# Altium footprint library HDC2022.PcbLib: 21 footprints (part 1 of 2)
Each footprint in its own frame and in the unit in brackets; x right, y up, seen from the top. Pads: shape width x height; smd on the part's side, far side on the other; paste and mask are expansions set on the pad; w line width, h text height; cw(c..) or ccw(c..) is an arc to the next point about the centre after c.
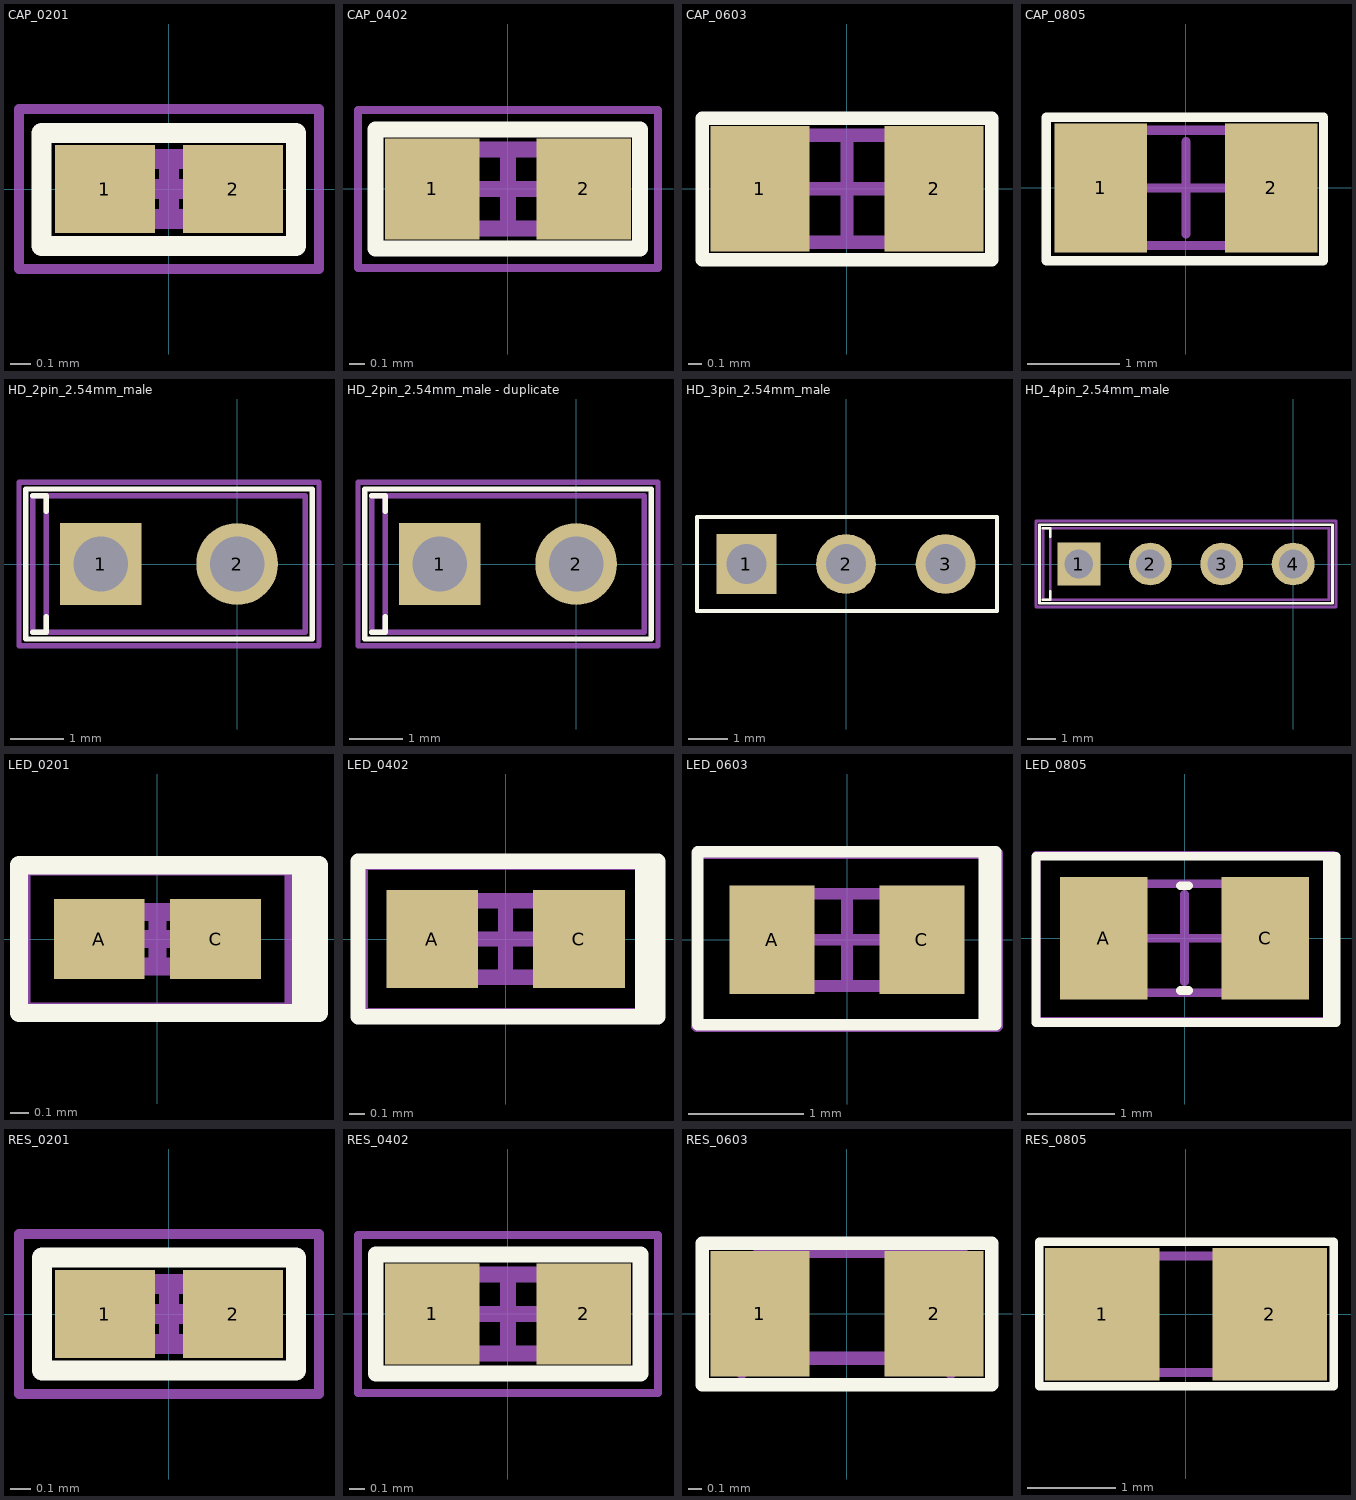
[diagram p0: the footprints below, top view; thin cyan lines are the x and y axes]

## CAP_0201 [mm] "Chip Capacitor, 2-Leads, Body 0.60x0.30mm, IPC Medium Density"
height 0.3
pads (2):
  rect 0.5x0.44 smd: 1(-0.32,0) 2(0.32,0)
Top Overlay:
  lines w0.1: -0.637,-0.284 -0.637,0.28 0.635,0.28 0.635,-0.284 -0.637,-0.284
Top Courtyard:
  lines w0.05: -0.75,-0.4 0.75,-0.4 0.75,0.4 -0.75,0.4 -0.75,-0.4
  lines w0.1: -0.15,0 0.15,0 ; 0,-0.15 0,0.15
Top Assembly:
  lines w0.1: -0.3,-0.15 0.3,-0.15 0.3,0.15 -0.3,0.15 -0.3,-0.15
3D body "CAPC0603X03N.step": height 0.3, standoff 0, extent -0.3,-0.15 0.3,0.15

## CAP_0402 [mm] "Chip Capacitor, 2-Leads, Body 1.00x0.50mm, IPC Medium Density"
height 0.5
pads (2):
  rect 0.6x0.64 smd: 1(-0.48,0) 2(0.48,0)
Top Overlay:
  lines w0.1: -0.839,-0.376 0.836,-0.376 0.836,0.377 -0.839,0.377 -0.839,-0.376
Top Courtyard:
  lines w0.05: -0.95,-0.5 -0.95,0.5 0.95,0.5 0.95,-0.5 -0.95,-0.5
  lines w0.1: -0.25,0 0.25,0 ; 0,-0.25 0,0.25
Top Assembly:
  lines w0.1: -0.5,-0.25 -0.5,0.25 0.5,0.25 0.5,-0.25 -0.5,-0.25
3D body: height 0.5, standoff 0, extent -0.25,-0.25 0.25,0.25
3D body: height 0.5, standoff 0, extent -0.5,-0.25 -0.25,0.25
3D body: height 0.5, standoff 0, extent 0.25,-0.25 0.5,0.25

## CAP_0603 [mm] "Chip Capacitor, 2-Leads, Body 1.50x0.80mm, IPC Medium Density"
height 0.6
pads (2):
  rect 0.74x0.94 smd: 1(-0.65,0) 2(0.65,0)
Top Overlay:
  lines w0.1: -1.082,-0.532 -1.082,0.527 1.082,0.527 1.082,-0.532 -1.082,-0.532
Top Courtyard:
  lines w0.1: -0.4,0 0.4,0 ; 0,-0.4 0,0.4
Top Assembly:
  lines w0.1: -0.75,-0.4 -0.75,0.4 0.75,0.4 0.75,-0.4 -0.75,-0.4
3D body "CAPC1508X06N.step": height 0.6, standoff 0, extent -0.75,-0.4 0.75,0.4

## CAP_0805 [mm] "Chip Capacitor, 2-Leads, Body 2.00x1.25mm, IPC Medium Density"
height 0.3
pads (2):
  rect 1x1.4 smd: 1(-0.925,0) 2(0.925,0)
Top Overlay:
  lines w0.1: -1.515,0.756 -1.515,-0.789 1.488,-0.789 ; -1.514,0.765 1.488,0.765 1.488,-0.78
Top Courtyard:
  lines w0.1: -0.5,0 0.5,0 ; 0,-0.5 0,0.5
Top Assembly:
  lines w0.1: -1,-0.625 -1,0.625 1,0.625 1,-0.625 -1,-0.625
3D body "CAPC2012X03N.step": height 0.3, standoff 0, extent -1,-0.625 1,0.625

## HD_2pin_2.54mm_male [mil]
pads (2):
  rect 60x60 hole 40 mask+0: 1(-100,0)
  round 60 hole 40 mask+0: 2(0,0)
Top Overlay:
  lines w3.94: -150,-50 -140,-50 -140,-38.46 ; -150,50 -140,50 -140,38.46 ; -155,-55 -155,55 55,55 55,-55 -155,-55
Mechanical 13:
  lines w3.94: -150,-50 -150,50 ; -150,-50 50,-50 50,50 -150,50 ; -150,-50 -140,-50 -140,50 -150,50
Mechanical 15:
  lines w3.94: -160,-60 60,-60 60,60 -160,60 -160,-60
3D body "CON2_1X2_P100UM_HDR.step": height 374.02, standoff -200, extent -150,-50 50,50
3D body: height 10, standoff 0, extent 0,0 10,10

## HD_2pin_2.54mm_male - duplicate [mil]
pads (2):
  rect 60x60 hole 40 mask+0: 1(-100,0)
  round 60 hole 40 mask+0: 2(0,0)
Top Overlay:
  lines w3.94: -150,-50 -140,-50 -140,-38.46 ; -150,50 -140,50 -140,38.46 ; -155,-55 -155,55 55,55 55,-55 -155,-55
Mechanical 13:
  lines w3.94: -150,-50 -150,50 ; -150,-50 50,-50 50,50 -150,50 ; -150,-50 -140,-50 -140,50 -150,50
Mechanical 15:
  lines w3.94: -160,-60 60,-60 60,60 -160,60 -160,-60
3D body "CON2_1X2_P100UM_HDR.step": height 374.02, standoff -200, extent -150,-50 50,50
3D body: height 10, standoff 0, extent 0,0 10,10

## HD_3pin_2.54mm_male [mil]
pads (3):
  rect 60x60 hole 40 mask+0: 1(-100,0)
  round 60 hole 40 mask+0: 2(0,0) 3(100,0)
Top Overlay:
  lines w3.94: -149.61,-47.24 151.57,-47.24 151.57,47.24 -149.61,47.24 -149.61,-47.24
3D body "User Library-zl201-3_p2-54_l7-62_w2-54_h8-89.step": height 350, standoff -120, extent -149.02,-50.2 150.98,49.8

## HD_4pin_2.54mm_male [mil]
pads (4):
  rect 60x60 hole 40 mask+0: 1(-300,0)
  round 60 hole 40 mask+0: 2(-200,0) 3(-100,0) 4(0,0)
Top Overlay:
  lines w3.94: -350,-50 -340,-50 -340,-38.46 ; -350,50 -340,50 -340,38.46 ; -355,-55 -355,55 55,55 55,-55 -355,-55
Mechanical 13:
  lines w3.94: -350,-50 -350,50 ; -350,-50 50,-50 50,50 -350,50 ; -350,-50 -340,-50 -340,50 -350,50
Mechanical 15:
  lines w3.94: -360,-60 60,-60 60,60 -360,60 -360,-60
3D body "CON4_1X4_P100UM_HDR2.step": height 374.02, standoff -200, extent -349.99,-49.99 50.01,50.01
3D body: height 10, standoff 0, extent 0,0 10,10

## LED_0201 [mm] "Chip Capacitor, 2-Leads, Body 0.60x0.30mm, IPC Medium Density"
height 0.3
pads (2):
  rect 0.5x0.44 smd: A(-0.32,0) C(0.32,0)
Top Overlay:
  lines w0.1: 0.791,-0.405 0.791,0.407 ; -0.762,-0.406 -0.762,0.406 0.889,0.406 0.889,-0.406 -0.762,-0.406
Top Courtyard:
  lines w0.1: -0.15,0 0.15,0 ; 0,-0.15 0,0.15 ; -0.75,-0.4 0.75,-0.4 0.75,0.4 -0.75,0.4 -0.75,-0.4
Top Assembly:
  lines w0.1: -0.3,-0.15 0.3,-0.15 0.3,0.15 -0.3,0.15 -0.3,-0.15

## LED_0402 [mm] "Chip Capacitor, 2-Leads, Body 1.00x0.50mm, IPC Medium Density"
height 0.5
pads (2):
  rect 0.6x0.64 smd: A(-0.48,0) C(0.48,0)
Top Overlay:
  lines w0.1: 0.898,-0.499 0.898,0.491 ; -0.965,-0.508 0.997,-0.508 0.997,0.508 -0.965,0.508 -0.965,-0.508
Top Courtyard:
  lines w0.1: -0.25,0 0.25,0 ; 0,-0.25 0,0.25 ; -0.95,-0.5 -0.95,0.5 0.95,0.5 0.95,-0.5 -0.95,-0.5
Top Assembly:
  lines w0.1: -0.5,-0.25 -0.5,0.25 0.5,0.25 0.5,-0.25 -0.5,-0.25
3D body "User Library-LED_1006_B.STEP": height 0.2, standoff 0, extent -0.5,-0.3 0.5,0.3

## LED_0603 [mm] "Chip Capacitor, 2-Leads, Body 1.50x0.80mm, IPC Medium Density"
height 0.6
pads (2):
  rect 0.74x0.94 smd: A(-0.65,0) C(0.65,0)
Top Overlay:
  lines w0.1: 1.19,-0.734 1.19,0.765 ; -1.295,-0.737 1.287,-0.737 1.287,0.762 -1.295,0.762 -1.295,-0.737
Top Courtyard:
  lines w0.1: -0.4,0 0.4,0 ; 0,-0.4 0,0.4 ; -1.3,-0.75 -1.3,0.75 1.3,0.75 1.3,-0.75 -1.3,-0.75
Top Assembly:
  lines w0.1: -0.75,-0.4 -0.75,0.4 0.75,0.4 0.75,-0.4 -0.75,-0.4
3D body "User Library-LED SMD0603.step": height 0.68, standoff 0, extent -0.808,-0.368 0.842,0.357

## LED_0805 [mm] "Chip Capacitor, 2-Leads, Body 2.00x1.25mm, IPC Medium Density"
height 0.3
pads (2):
  rect 1x1.4 smd: A(-0.925,0) C(0.925,0)
Top Overlay:
  lines w0.1: -0.05,-0.6 0.05,-0.6 ; -0.05,0.6 0.05,0.6 ; 1.637,-0.968 1.637,0.937 ; -1.702,-0.965 -1.702,0.94 1.736,0.94 1.736,-0.965 -1.702,-0.965
Top Courtyard:
  lines w0.1: -0.5,0 0.5,0 ; 0,-0.5 0,0.5 ; -1.7,-0.95 -1.7,0.95 1.7,0.95 1.7,-0.95 -1.7,-0.95
Top Assembly:
  lines w0.1: -1,-0.625 -1,0.625 1,0.625 1,-0.625 -1,-0.625
3D body "User Library-led0803_GRE.step": height 0.4, standoff 0, extent -0.985,-0.65 1.035,0.6

## RES_0201 [mm] "Chip Capacitor, 2-Leads, Body 0.60x0.30mm, IPC Medium Density"
height 0.3
pads (2):
  rect 0.5x0.44 smd: 1(-0.32,0) 2(0.32,0)
Top Overlay:
  lines w0.1: -0.636,-0.282 0.636,-0.282 0.636,0.282 -0.636,0.282 -0.636,-0.282
Top Courtyard:
  lines w0.05: -0.75,-0.4 0.75,-0.4 0.75,0.4 -0.75,0.4 -0.75,-0.4
  lines w0.1: -0.15,0 0.15,0 ; 0,-0.15 0,0.15
Top Assembly:
  lines w0.1: -0.3,-0.15 0.3,-0.15 0.3,0.15 -0.3,0.15 -0.3,-0.15
3D body "44025.stp": height 0.27, standoff -0.03, extent -0.3,-0.15 0.3,0.15

## RES_0402 [mm] "Chip Capacitor, 2-Leads, Body 1.00x0.50mm, IPC Medium Density"
height 0.5
pads (2):
  rect 0.6x0.64 smd: 1(-0.48,0) 2(0.48,0)
Top Overlay:
  lines w0.1: -0.837,-0.376 0.838,-0.376 0.838,0.377 -0.837,0.377 -0.837,-0.376
Top Courtyard:
  lines w0.05: -0.95,-0.5 -0.95,0.5 0.95,0.5 0.95,-0.5 -0.95,-0.5
  lines w0.1: -0.25,0 0.25,0 ; 0,-0.25 0,0.25
Top Assembly:
  lines w0.1: -0.5,-0.25 -0.5,0.25 0.5,0.25 0.5,-0.25 -0.5,-0.25
3D body "User Library-FB_1005.STEP": height 0.5, standoff 0, extent -0.5,-0.25 0.5,0.25

## RES_0603 [mm] "Chip Resistor, 2-Leads, Body 1.55x0.80mm, IPC Medium Density"
height 0.45
pads (2):
  rect 0.74x0.94 smd: 1(-0.65,0) 2(0.65,0)
Top Overlay:
  lines w0.1: -1.082,-0.532 1.082,-0.532 1.082,0.527 -1.082,0.527 -1.082,-0.532
Top Assembly:
  lines w0.1: -0.785,-0.435 -0.785,0.375 ; 0.775,-0.435 0.775,0.375 ; -0.649,-0.333 0.851,-0.333 0.851,0.467 -0.649,0.467 -0.649,-0.333
3D body "CircuitWorks-RESISTOR 0603.step": height 0.48, standoff -0.03, extent -0.792,-0.419 0.808,0.441

## RES_0805 [mm]
pads (2):
  rect 1.3x1.5 smd: 1(-0.95,0) 2(0.95,0)
Top Overlay:
  lines w0.1: -1.662,0.82 -1.662,-0.817 1.671,-0.817 ; -1.658,0.821 1.675,0.821 1.675,-0.817
Mechanical 4:
  region: 0.356,0.726 1.106,0.726 1.106,-0.724 0.356,-0.724
  region: -1.094,0.726 -0.342,0.726 -0.342,-0.725 -1.094,-0.725
  region: 0.356,0.726 1.106,0.726 1.106,-0.724 0.356,-0.724
  region: -1.094,0.726 -0.342,0.726 -0.342,-0.725 -1.094,-0.725
  lines w0.102: -0.381,0.66 0.381,0.66 -0.381,0.66 ; -0.356,-0.66 0.381,-0.66 -0.356,-0.66
3D body "RC0805FR-072KL--3DModel-STEP-56544.STEP": height 0.55, standoff -0.05, extent -1,-0.625 1,0.625